# Altium integrated library FFB_05_6P.IntLib: 1 symbol
Pins are listed as number, name and electrical type; pins without a type are passive.

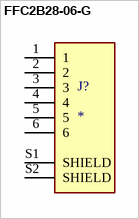
[diagram p0: symbol FFC2B28-06-G]

## FFC2B28-06-G
designator J?
FPC 0.5mm Pitch, Side entry, Dual contact, SMT, Height 1mm, Back Flip; MP: FFC2B28-06-G; Package: None; Price: None; Value: *; Availability: Unavailable
footprint GCT_FFC2B28-06-G
pins: 1, 2, 3, 4, 5, 6, S1 SHIELD, S2 SHIELD